# Altium footprint library R_2010_FP.PcbLib: 1 footprints
Each footprint in its own frame and in the unit in brackets; x right, y up, seen from the top. Pads: shape width x height; smd on the part's side, far side on the other; paste and mask are expansions set on the pad; w line width, h text height; cw(c..) or ccw(c..) is an arc to the next point about the centre after c.
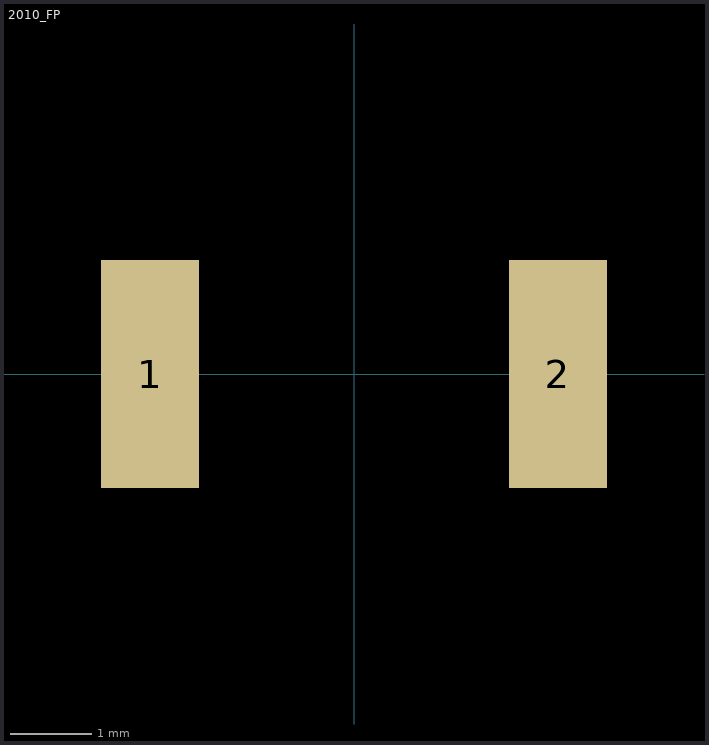
[diagram p0: the footprint, top view; thin cyan lines are the x and y axes]

## 2010_FP [mm]
pads (2):
  rect 1.2x2.8 smd mask+0.05: 1(-2.5,0) 2(2.5,0)